# Altium schematic symbol library TallyLight.SchLib: 2 symbols
Pins are listed as number, name and electrical type; pins without a type are passive.

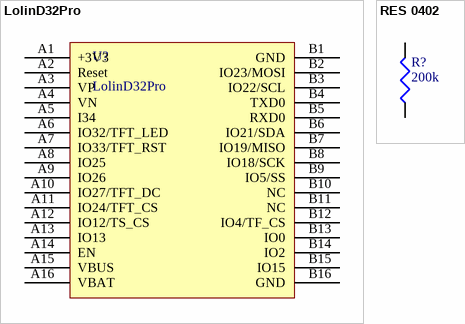
[diagram p0: symbols LolinD32Pro to RES 0402]

## LolinD32Pro
designator U?
footprint LolinD32Pro
pins: A1 +3V3, A2 Reset, A3 VP, A4 VN, A5 I34, A6 IO32/TFT_LED, A7 IO33/TFT_RST, A8 IO25, A9 IO26, A10 IO27/TFT_DC, A11 IO24/TFT_CS, A12 IO12/TS_CS, A13 IO13, A14 EN, A15 VBUS, A16 VBAT, B1 GND, B2 IO23/MOSI, B3 IO22/SCL, B4 TXD0, B5 RXD0, B6 IO21/SDA, B7 IO19/MISO, B8 IO18/SCK, B9 IO5/SS, B10 NC, B11 NC, B12 IO4/TF_CS, B13 IO0, B14 IO2, B15 IO15, B16 GND

## RES 0402
designator R?, comment 200k
RES 200 KOHM 1/10W 1% 0402 SMD; Manufacturer: Panasonic; Manufacturer Part Number: ERJ-2RKF2003X; Fitted: Fitted; Value: 200k
footprint R0402
pins: 1, 2